# Altium footprint library avr_da.PcbLib: 21 footprints (part 1 of 2)
Each footprint in its own frame and in the unit in brackets; x right, y up, seen from the top. Pads: shape width x height; smd on the part's side, far side on the other; paste and mask are expansions set on the pad; w line width, h text height; cw(c..) or ccw(c..) is an arc to the next point about the centre after c.
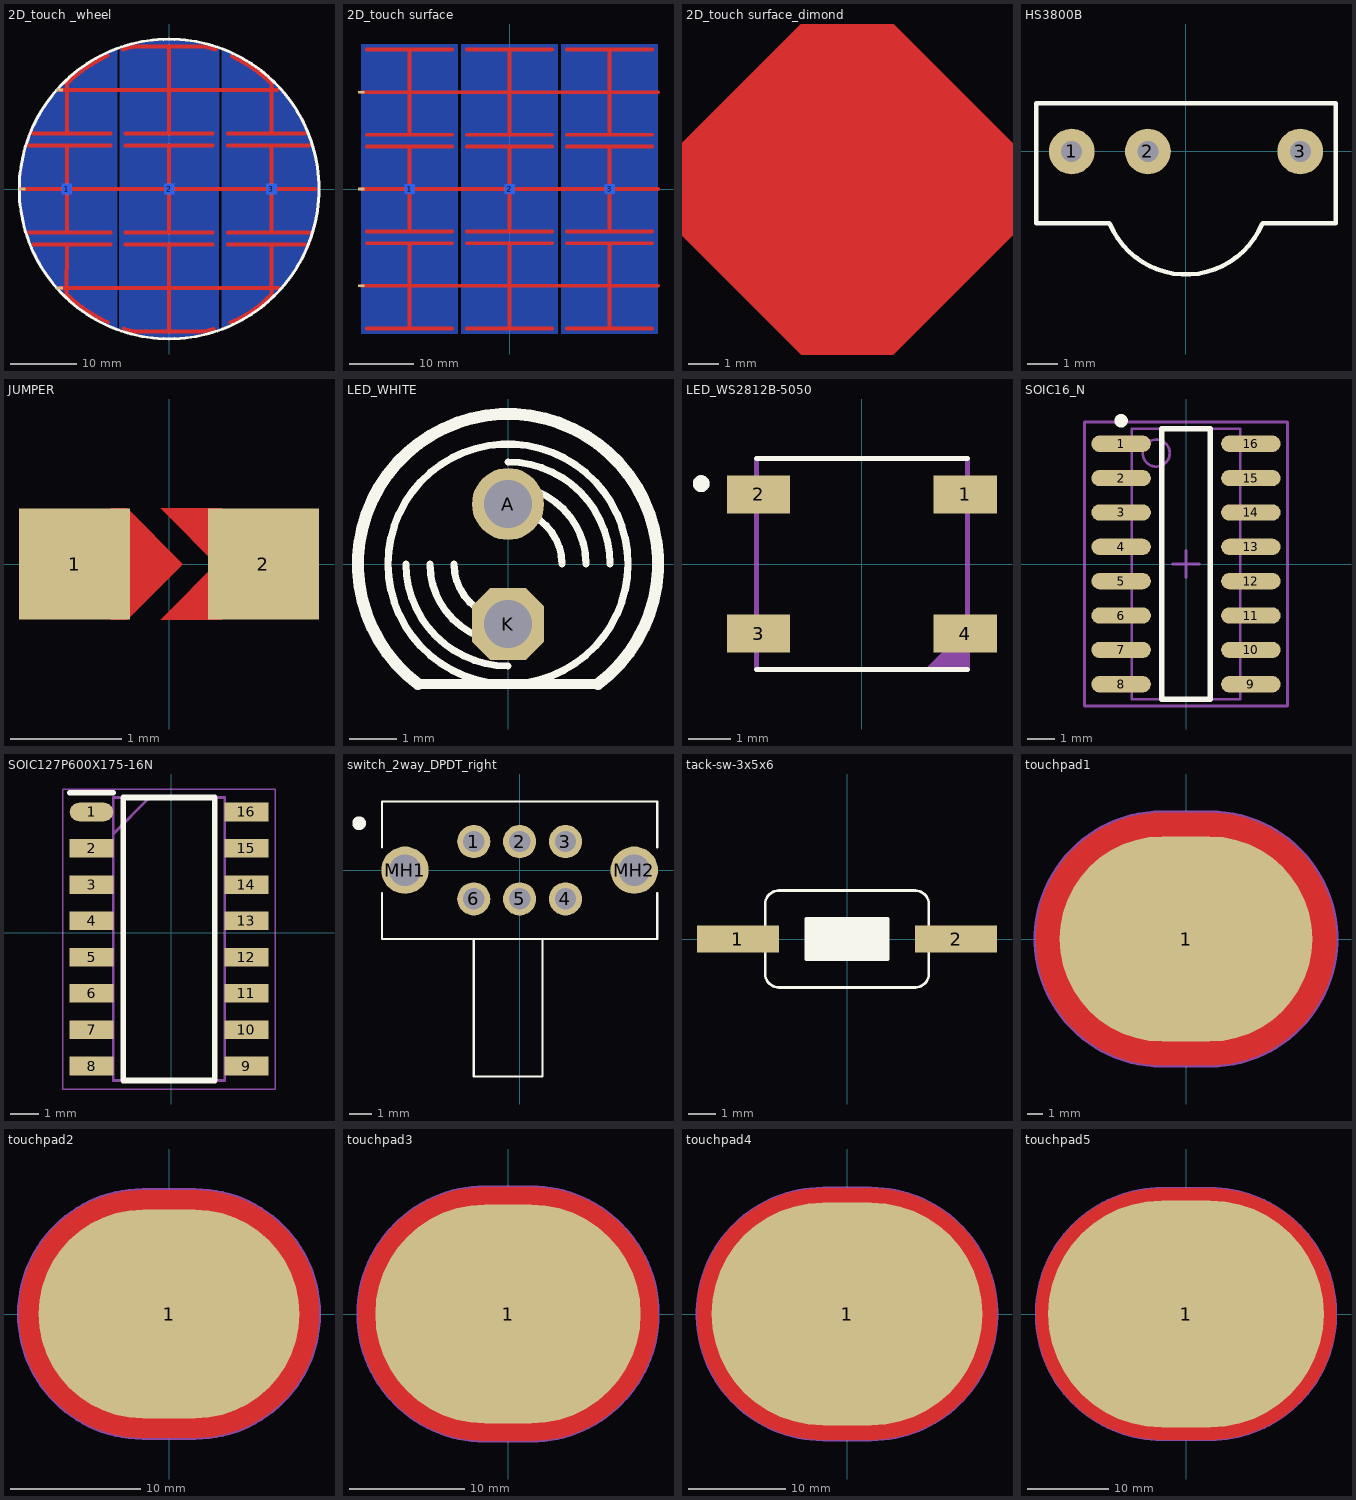
[diagram p0: the footprints below, top view; thin cyan lines are the x and y axes]

## 2D_touch _wheel [mm]
pads (6):
  rect 1.55x1.55 smd far side mask+0.102: 1(-15.5,0) 2(0,0) 3(15.5,0)
  rect 1x0.4 smd mask+0.102: 4(-16.575,15) 5(-22.25,0) 6(-16.55,-15)
Top Layer:
  lines w0.6: -22.25,0 22.1,0 ; -21.225,-6.6 -8.9,-6.6 ; -21.225,6.6 -8.9,6.6 ; -20.625,8.4 -8.9,8.4 ; -20.575,-8.4 -8.9,-8.4 ; -16.575,15 16.375,15 ; -16.55,-15 16.575,-15 ; -15.531,15.932 cw(c0,0) -9.318,20.205 ; -15.5,-8.4 -15.53,-15.934 ccw(c0,0) -9.302,-20.212 ; -15.5,-6.6 -15.5,6.6 ; -15.5,8.4 -15.5,15.9 ; -7.006,21.118 cw(c0,0) -5.561,21.544 ; -6.879,-21.16 ccw(c0,0) -5.16,-21.643 ; -6.6,-8.4 6.6,-8.4 ; -6.6,-6.6 6.6,-6.6 ; -6.6,6.6 6.6,6.6 ; -6.6,8.4 6.6,8.4 ; -5.561,21.6 5.225,21.6 ; -5.15,-21.6 5.15,-21.6 ; 0,-21.6 0,-8.4 ; 0,-6.6 0,6.6 ; 0,8.4 0,21.6 ; 5.156,-21.626 ccw(c-0.075,0) 6.711,-21.19 ; 5.259,21.619 cw(c0,0) 6.988,21.124 ; 8.9,-8.4 20.525,-8.4 ; 8.9,-6.6 21.175,-6.6 ; 8.9,6.6 21.225,6.6 ; 8.9,8.4 20.55,8.4 ; 9.27,-20.228 ccw(c2.92,-4.444) 14.651,-16.767 15.5,-15.957 15.5,-8.4 ; 9.496,20.122 cw(c0,0) 15.476,15.987 ; 15.5,-6.6 15.5,6.6 ; 15.5,8.4 15.5,15.975
Bottom Layer:
  region: -7.9,-21.15 -7.85,21.025 -7.85,21.175 -8.49,20.934 -9.741,20.377 -10.955,19.744 -12.129,19.039 -13.258,18.265 -14.338,17.424 -15.365,16.518 -16.336,15.553 -17.247,14.53 -18.093,13.454 -18.874,12.329 -19.585,11.159 -20.223,9.948 -20.788,8.701 -21.276,7.422 -21.685,6.115 -22.015,4.786 -22.264,3.44 -22.431,2.081 -22.515,0.715 -22.517,-0.655 -22.436,-2.021 -22.272,-3.381 -22.026,-4.728 -21.7,-6.057 -21.293,-7.365 -20.808,-8.645 -20.247,-9.894 -19.611,-11.106 -18.903,-12.278 -18.126,-13.405 -17.281,-14.483 -16.373,-15.508 -15.405,-16.476 -14.38,-17.383 -13.302,-18.227 -12.174,-19.004 -11.002,-19.712 -9.789,-20.347 -8.54,-20.908
  region: -7.55,-21.195 -6.948,-21.41 -5.72,-21.77 -4.474,-22.06 -3.213,-22.279 -1.942,-22.425 -0.665,-22.499 0.614,-22.501 1.892,-22.429 3.163,-22.286 4.424,-22.07 5.671,-21.783 6.9,-21.426 7.503,-21.212 7.5,-21.205 7.55,21.195 6.948,21.41 5.72,21.77 4.474,22.06 3.213,22.279 1.942,22.425 0.665,22.499 -0.614,22.501 -1.892,22.429 -3.163,22.286 -4.424,22.07 -5.671,21.783 -6.9,21.426 -7.503,21.212 -7.5,21.2
  region: 7.95,-21.05 8,21.025 8.002,21.029 8.708,20.76 10.081,20.129 11.409,19.408 12.685,18.599 13.904,17.706 15.06,16.733 16.149,15.685 17.165,14.567 18.103,13.382 18.96,12.138 19.732,10.838 20.415,9.49 21.005,8.099 21.501,6.672 21.9,5.214 22.201,3.734 22.401,2.236 22.501,0.728 22.499,-0.783 22.396,-2.291 22.192,-3.788 21.888,-5.268 21.485,-6.725 20.985,-8.151 20.391,-9.54 19.705,-10.887 18.931,-12.184 18.071,-13.427 17.129,-14.609 16.111,-15.725 15.019,-16.77 13.86,-17.74 12.639,-18.63 11.361,-19.436 10.031,-20.154 8.657,-20.782 7.95,-21.049
Top Overlay:
  circle w0.45: c0,0 r22.7

## 2D_touch surface [mm]
pads (6):
  rect 1.55x1.55 smd far side mask+0.102: 1(-15.5,0) 2(0,0) 3(15.5,0)
  rect 1x0.4 smd mask+0.102: 4(-23,15) 5(-23,0) 6(-23,-15)
Top Layer:
  lines w0.6: -23,-15 23,-15 ; -23,0 23,0 ; -23,15 23,15 ; -22.1,-21.6 -8.9,-21.6 ; -22.1,-8.4 -8.9,-8.4 ; -22.1,-6.6 -8.9,-6.6 ; -22.1,6.6 -8.9,6.6 ; -22.1,8.4 -8.9,8.4 ; -22.1,21.6 -8.9,21.6 ; -15.5,-21.6 -15.5,-8.4 ; -15.5,-6.6 -15.5,6.6 ; -15.5,8.4 -15.5,21.6 ; -6.6,-21.6 6.6,-21.6 ; -6.6,-8.4 6.6,-8.4 ; -6.6,-6.6 6.6,-6.6 ; -6.6,6.6 6.6,6.6 ; -6.6,8.4 6.6,8.4 ; -6.6,21.6 6.6,21.6 ; 0,-21.6 0,-8.4 ; 0,-6.6 0,6.6 ; 0,8.4 0,21.6 ; 8.9,-21.6 22.1,-21.6 ; 8.9,-8.4 22.1,-8.4 ; 8.9,-6.6 22.1,-6.6 ; 8.9,6.6 22.1,6.6 ; 8.9,8.4 22.1,8.4 ; 8.9,21.6 22.1,21.6 ; 15.5,-21.6 15.5,-8.4 ; 15.5,-6.6 15.5,6.6 ; 15.5,8.4 15.5,21.6
Bottom Layer:
  rectangle: 8,-22.5 23,22.5
  rectangle: -7.5,-22.5 7.5,22.5
  rectangle: -23,-22.5 -8,22.5

## 2D_touch surface_dimond [mm]
Top Layer:
  region: 0,-7.071 7.071,0 0,7.071 -7.071,0

## HS3800B [mil]
pads (3):
  round 60 hole 27.56: 1(-150,0) 2(-50,0) 3(150,0)
Top Overlay:
  lines w5.91: -100.63,-94.49 -196.85,-94.49 -196.85,62.99 196.85,62.99 196.85,-94.49 100.63,-94.49 ; -99.66,-95.45 ccw(c0,-53.15) 99.66,-95.45

## JUMPER [mm]
pads (2):
  rect 1x1 smd mask+0.05: 1(-0.85,0) 2(0.85,0)
Top Layer:
  region: -0.375,0.5 0.125,0 -0.375,-0.5 -0.525,-0.5 -0.525,0.5
  region: 0.475,0.05 0.475,-0.5 -0.075,-0.5
  region: 0.475,0.5 -0.075,0.5 0.475,-0.05

## LED_WHITE [mil]
pads (2):
  round 60 hole 40: A(0,50)
  oct 60x60 hole 40: K(0,-50)
Top Overlay:
  circle w6: c0,0 r100
  lines w6: -85,0 ccw(c0,0) 0,-85 ; -65,0 ccw(c0,0) 0,-65 ; -45,0 ccw(c0,0) 0,-45 ; 0,45 cw(c0,0) 45,0 ; 0,65 cw(c0,0) 65,0 ; 0,85 cw(c0,0) 85,0
  lines w8: -75,-100 75,-100
  lines w10: -75,-100 cw(c0,0) 75,-100
3D body "LED D5 - White-Clear_cutted.x_t": height 338.58, standoff -200.79, extent -116.14,-98.42 116.14,116.14

## LED_WS2812B-5050 [mm]
pads (4):
  rect 1.5x0.9 smd: 1(2.45,1.65) 2(-2.45,1.65) 3(-2.45,-1.65) 4(2.45,-1.65)
Top Overlay:
  circle w0.2: c-3.81,1.905 r0.1
  lines w0.127: -2.5,-2.5 2.5,-2.5 ; -2.5,2.5 2.5,2.5
Mechanical 13:
  circle w0.2: c-3.81,1.905 r0.1
  region: 2.5,-2.5 1.5,-2.5 2.5,-1.5
  lines w0.127: -2.5,-2.5 -2.5,2.5 2.5,2.5 2.5,-2.5 -2.5,-2.5
3D body "WS2812_RGB_LED_updated.stp": height 1.68, standoff -0.02, extent -2.675,-2.475 2.675,2.475

## SOIC16_N [mm] "SOIC, 16-Leads, Body 9.9x3.9mm, Pitch 1.27mm, IPC Medium Density"
height 1.91
pads (16):
  oval 2.2x0.6 smd: 1(-2.4,4.445) 2(-2.4,3.175) 3(-2.4,1.905) 4(-2.4,0.635) 5(-2.4,-0.635) 6(-2.4,-1.905) 7(-2.4,-3.175) 8(-2.4,-4.445) 9(2.4,-4.445) 10(2.4,-3.175) 11(2.4,-1.905) 12(2.4,-0.635) 13(2.4,0.635) 14(2.4,1.905) 15(2.4,3.175) 16(2.4,4.445)
Top Overlay:
  circle w0.25: c-2.4,5.295 r0.125
  lines w0.2: -0.9,-5 -0.9,5 0.9,5 0.9,-5 -0.9,-5
Mechanical 13:
  circle w0.1: c-1.1,4.1 r0.5
  lines w0.1: -2,-5 -2,5 2,5 2,-5 -2,-5
Mechanical 15:
  lines w0.1: -0.5,0 0.5,0 ; 0,-0.5 0,0.5 ; -3.75,-5.25 -3.75,5.25 3.75,5.25 3.75,-5.25 -3.75,-5.25
3D body: height 1.91, standoff 0, extent -2,-5 2,5

## SOIC127P600X175-16N [mm]
pads (16):
  oval 1.525x0.65 smd: 1(-2.787,4.22)
  rect 1.525x0.65 smd: 2(-2.787,2.95) 3(-2.787,1.68) 4(-2.787,0.41) 5(-2.787,-0.86) 6(-2.787,-2.13) 7(-2.787,-3.4) 8(-2.787,-4.67) 9(2.637,-4.67) 10(2.637,-3.4) 11(2.637,-2.13) 12(2.637,-0.86) 13(2.637,0.41) 14(2.637,1.68) 15(2.637,2.95) 16(2.637,4.22)
Top Overlay:
  lines w0.2: -3.55,4.895 -2.025,4.895 ; -1.675,-5.175 1.525,-5.175 1.525,4.725 -1.675,4.725 -1.675,-5.175
Mechanical 13:
  lines w0.1: -2.025,3.455 -0.755,4.725 ; -2.025,-5.175 1.875,-5.175 1.875,4.725 -2.025,4.725 -2.025,-5.175
Mechanical 15:
  lines w0.05: -3.8,-5.475 3.65,-5.475 3.65,5.025 -3.8,5.025 -3.8,-5.475
3D body "MAX3232ECD.stp": height 1.75, standoff 0, extent -3.088,-5.165 2.938,4.735

## switch_2way_DPDT_right [mm]
pads (8):
  round 1.447 hole 0.93: 1(-2,1.25) 2(0,1.25) 3(2,1.25) 4(2,-1.25) 5(0,-1.25) 6(-2,-1.25)
  round 2.07 hole 1.38: MH1(-5,0) MH2(5,0)
Top Overlay:
  lines w0.1: -6,-1 -6,-3 6,-3 6,-1 ; -6,1 -6,3 6,3 6,1 ; -2,-3 -2,-9 1,-9 1,-3
  lines w0.5: -7,2 cw(c-7,2.05) -7,2.1 cw(c-7,2.05) -7,2
3D body "step_temp.STEP": height 5.07, standoff -2.93, extent -5.093,-9.048 5.207,2.952

## tack-sw-3x5x6 [mm]
pads (2):
  rect 3x1 smd mask+0.05: 1(-4,0) 2(4,0)
Top Overlay:
  rectangle: -1.5,-0.75 1.5,0.75
  lines w0.1: -3,-1.275 ccw(c-2.5,-1.275) -2.5,-1.775 2.5,-1.775 ccw(c2.5,-1.275) 3,-1.275 3,1.275 ccw(c2.5,1.275) 2.5,1.775 -2.5,1.775 ccw(c-2.5,1.275) -3,1.275 -3,-1.275 ; -1.5,-0.75 1.5,-0.75 1.5,0.75 -1.5,0.75 -1.5,-0.75
3D body "RS-032G05A3-SM RT--3DModel-STEP-56544.STEP": height 4.3, standoff 0, extent -4,-1.75 4,1.75

## touchpad1 [mm]
pads (1):
  oval 16x13 smd mask+0.102: 1(0,0)
Top Layer:
  pour cut-out: -1.5,-8 -1.949,-8 -2.842,-7.899 -3.718,-7.699 -4.566,-7.403 -5.376,-7.013 -6.137,-6.535 -6.839,-5.975 -7.475,-5.339 -8.035,-4.637 -8.513,-3.876 -8.903,-3.066 -9.199,-2.218 -9.399,-1.342 -9.5,-0.449 -9.5,0.449 -9.399,1.342 -9.199,2.218 -8.903,3.066 -8.513,3.876 -8.035,4.637 -7.475,5.339 -6.839,5.975 -6.137,6.535 -5.376,7.013 -4.566,7.403 -3.718,7.699 -2.842,7.899 -1.949,8 -1.5,8 1.5,8 1.949,8 2.842,7.899 3.718,7.699 4.566,7.403 5.376,7.013 6.137,6.535 6.839,5.975 7.475,5.339 8.035,4.637 8.513,3.876 8.903,3.066 9.199,2.218 9.399,1.342 9.5,0.449 9.5,-0.449 9.399,-1.342 9.199,-2.218 8.903,-3.066 8.513,-3.876 8.035,-4.637 7.475,-5.339 6.839,-5.975 6.137,-6.535 5.376,-7.013 4.566,-7.403 3.718,-7.699 2.842,-7.899 1.949,-8 1.5,-8
Bottom Layer:
  pour cut-out: -1.5,-8 -1.949,-8 -2.842,-7.899 -3.718,-7.699 -4.566,-7.403 -5.376,-7.013 -6.137,-6.535 -6.839,-5.975 -7.475,-5.339 -8.035,-4.637 -8.513,-3.876 -8.903,-3.066 -9.199,-2.218 -9.399,-1.342 -9.5,-0.449 -9.5,0.449 -9.399,1.342 -9.199,2.218 -8.903,3.066 -8.513,3.876 -8.035,4.637 -7.475,5.339 -6.839,5.975 -6.137,6.535 -5.376,7.013 -4.566,7.403 -3.718,7.699 -2.842,7.899 -1.949,8 -1.5,8 1.5,8 1.949,8 2.842,7.899 3.718,7.699 4.566,7.403 5.376,7.013 6.137,6.535 6.839,5.975 7.475,5.339 8.035,4.637 8.513,3.876 8.903,3.066 9.199,2.218 9.399,1.342 9.5,0.449 9.5,-0.449 9.399,-1.342 9.199,-2.218 8.903,-3.066 8.513,-3.876 8.035,-4.637 7.475,-5.339 6.839,-5.975 6.137,-6.535 5.376,-7.013 4.566,-7.403 3.718,-7.699 2.842,-7.899 1.949,-8 1.5,-8
Top Overlay:
  text "13x16" at -3.05,-0.725 h3
Top Courtyard:
  lines w0.3: -1.5,-8 cw(c-1.5,0) -1.5,8 1.5,8 cw(c1.5,0) 1.5,-8 -1.5,-8

## touchpad2 [mm]
pads (1):
  oval 20x16 smd mask+0.102: 1(0,0)
Top Layer:
  pour cut-out: -2,-9.5 -2.467,-9.5 -3.396,-9.409 -4.311,-9.226 -5.204,-8.955 -6.067,-8.598 -6.89,-8.158 -7.666,-7.64 -8.388,-7.048 -9.048,-6.388 -9.64,-5.666 -10.158,-4.89 -10.598,-4.067 -10.955,-3.204 -11.226,-2.311 -11.409,-1.396 -11.5,-0.467 -11.5,0.467 -11.409,1.396 -11.226,2.311 -10.955,3.204 -10.598,4.067 -10.158,4.89 -9.64,5.666 -9.048,6.388 -8.388,7.048 -7.666,7.64 -6.89,8.158 -6.067,8.598 -5.204,8.955 -4.311,9.226 -3.396,9.409 -2.467,9.5 -2,9.5 2,9.5 2.467,9.5 3.396,9.409 4.311,9.226 5.204,8.955 6.067,8.598 6.89,8.158 7.666,7.64 8.388,7.048 9.048,6.388 9.64,5.666 10.158,4.89 10.598,4.067 10.955,3.204 11.226,2.311 11.409,1.396 11.5,0.467 11.5,-0.467 11.409,-1.396 11.226,-2.311 10.955,-3.204 10.598,-4.067 10.158,-4.89 9.64,-5.666 9.048,-6.388 8.388,-7.048 7.666,-7.64 6.89,-8.158 6.067,-8.598 5.204,-8.955 4.311,-9.226 3.396,-9.409 2.467,-9.5 2,-9.5
Bottom Layer:
  pour cut-out: -2,-9.5 -2.467,-9.5 -3.396,-9.409 -4.311,-9.226 -5.204,-8.955 -6.067,-8.598 -6.89,-8.158 -7.666,-7.64 -8.388,-7.048 -9.048,-6.388 -9.64,-5.666 -10.158,-4.89 -10.598,-4.067 -10.955,-3.204 -11.226,-2.311 -11.409,-1.396 -11.5,-0.467 -11.5,0.467 -11.409,1.396 -11.226,2.311 -10.955,3.204 -10.598,4.067 -10.158,4.89 -9.64,5.666 -9.048,6.388 -8.388,7.048 -7.666,7.64 -6.89,8.158 -6.067,8.598 -5.204,8.955 -4.311,9.226 -3.396,9.409 -2.467,9.5 -2,9.5 2,9.5 2.467,9.5 3.396,9.409 4.311,9.226 5.204,8.955 6.067,8.598 6.89,8.158 7.666,7.64 8.388,7.048 9.048,6.388 9.64,5.666 10.158,4.89 10.598,4.067 10.955,3.204 11.226,2.311 11.409,1.396 11.5,0.467 11.5,-0.467 11.409,-1.396 11.226,-2.311 10.955,-3.204 10.598,-4.067 10.158,-4.89 9.64,-5.666 9.048,-6.388 8.388,-7.048 7.666,-7.64 6.89,-8.158 6.067,-8.598 5.204,-8.955 4.311,-9.226 3.396,-9.409 2.467,-9.5 2,-9.5
Top Overlay:
  text "16x20" at -3.05,-0.725 h3
Top Courtyard:
  lines w0.3: -2,-9.5 cw(c-2,0) -2,9.5 2,9.5 cw(c2,0) 2,-9.5 -2,-9.5

## touchpad3 [mm]
pads (1):
  oval 23x19 smd mask+0.102: 1(0,0)
Top Layer:
  pour cut-out: -2,-11 -2.48,-11 -3.437,-10.916 -4.383,-10.749 -5.311,-10.501 -6.214,-10.172 -7.084,-9.766 -7.916,-9.286 -8.703,-8.735 -9.439,-8.118 -10.118,-7.439 -10.735,-6.703 -11.286,-5.916 -11.766,-5.084 -12.172,-4.214 -12.501,-3.311 -12.749,-2.383 -12.916,-1.437 -13,-0.48 -13,0.48 -12.916,1.437 -12.749,2.383 -12.501,3.311 -12.172,4.214 -11.766,5.084 -11.286,5.916 -10.735,6.703 -10.118,7.439 -9.439,8.118 -8.703,8.735 -7.916,9.286 -7.084,9.766 -6.214,10.172 -5.311,10.501 -4.383,10.749 -3.437,10.916 -2.48,11 -2,11 2,11 2.48,11 3.437,10.916 4.383,10.749 5.311,10.501 6.214,10.172 7.084,9.766 7.916,9.286 8.703,8.735 9.439,8.118 10.118,7.439 10.735,6.703 11.286,5.916 11.766,5.084 12.172,4.214 12.501,3.311 12.749,2.383 12.916,1.437 13,0.48 13,-0.48 12.916,-1.437 12.749,-2.383 12.501,-3.311 12.172,-4.214 11.766,-5.084 11.286,-5.916 10.735,-6.703 10.118,-7.439 9.439,-8.118 8.703,-8.735 7.916,-9.286 7.084,-9.766 6.214,-10.172 5.311,-10.501 4.383,-10.749 3.437,-10.916 2.48,-11 2,-11
Bottom Layer:
  pour cut-out: -2,-11 -2.48,-11 -3.437,-10.916 -4.383,-10.749 -5.311,-10.501 -6.214,-10.172 -7.084,-9.766 -7.916,-9.286 -8.703,-8.735 -9.439,-8.118 -10.118,-7.439 -10.735,-6.703 -11.286,-5.916 -11.766,-5.084 -12.172,-4.214 -12.501,-3.311 -12.749,-2.383 -12.916,-1.437 -13,-0.48 -13,0.48 -12.916,1.437 -12.749,2.383 -12.501,3.311 -12.172,4.214 -11.766,5.084 -11.286,5.916 -10.735,6.703 -10.118,7.439 -9.439,8.118 -8.703,8.735 -7.916,9.286 -7.084,9.766 -6.214,10.172 -5.311,10.501 -4.383,10.749 -3.437,10.916 -2.48,11 -2,11 2,11 2.48,11 3.437,10.916 4.383,10.749 5.311,10.501 6.214,10.172 7.084,9.766 7.916,9.286 8.703,8.735 9.439,8.118 10.118,7.439 10.735,6.703 11.286,5.916 11.766,5.084 12.172,4.214 12.501,3.311 12.749,2.383 12.916,1.437 13,0.48 13,-0.48 12.916,-1.437 12.749,-2.383 12.501,-3.311 12.172,-4.214 11.766,-5.084 11.286,-5.916 10.735,-6.703 10.118,-7.439 9.439,-8.118 8.703,-8.735 7.916,-9.286 7.084,-9.766 6.214,-10.172 5.311,-10.501 4.383,-10.749 3.437,-10.916 2.48,-11 2,-11
Top Overlay:
  text "19x23" at -3.025,-0.625 h3
Top Courtyard:
  lines w0.3: -2,-11 cw(c-2,0) -2,11 2,11 cw(c2,0) 2,-11 -2,-11

## touchpad4 [mm]
pads (1):
  oval 28x23 smd mask+0.102: 1(0,0)
Top Layer:
  pour cut-out: -2.5,-13 -3.068,-13 -4.198,-12.901 -5.316,-12.704 -6.413,-12.41 -7.48,-12.022 -8.508,-11.542 -9.492,-10.975 -10.421,-10.323 -11.291,-9.594 -12.094,-8.791 -12.823,-7.921 -13.475,-6.992 -14.042,-6.008 -14.522,-4.98 -14.91,-3.913 -15.204,-2.816 -15.401,-1.698 -15.5,-0.568 -15.5,0.568 -15.401,1.698 -15.204,2.816 -14.91,3.913 -14.522,4.98 -14.042,6.008 -13.475,6.992 -12.823,7.921 -12.094,8.791 -11.291,9.594 -10.421,10.323 -9.492,10.975 -8.508,11.542 -7.48,12.022 -6.413,12.41 -5.316,12.704 -4.198,12.901 -3.068,13 -2.5,13 2.5,13 3.068,13 4.198,12.901 5.316,12.704 6.413,12.41 7.48,12.022 8.508,11.542 9.492,10.975 10.421,10.323 11.291,9.594 12.094,8.791 12.823,7.921 13.475,6.992 14.042,6.008 14.522,4.98 14.91,3.913 15.204,2.816 15.401,1.698 15.5,0.568 15.5,-0.568 15.401,-1.698 15.204,-2.816 14.91,-3.913 14.522,-4.98 14.042,-6.008 13.475,-6.992 12.823,-7.921 12.094,-8.791 11.291,-9.594 10.421,-10.323 9.492,-10.975 8.508,-11.542 7.48,-12.022 6.413,-12.41 5.316,-12.704 4.198,-12.901 3.068,-13 2.5,-13
Bottom Layer:
  pour cut-out: -2.5,-13 -3.068,-13 -4.198,-12.901 -5.316,-12.704 -6.413,-12.41 -7.48,-12.022 -8.508,-11.542 -9.492,-10.975 -10.421,-10.323 -11.291,-9.594 -12.094,-8.791 -12.823,-7.921 -13.475,-6.992 -14.042,-6.008 -14.522,-4.98 -14.91,-3.913 -15.204,-2.816 -15.401,-1.698 -15.5,-0.568 -15.5,0.568 -15.401,1.698 -15.204,2.816 -14.91,3.913 -14.522,4.98 -14.042,6.008 -13.475,6.992 -12.823,7.921 -12.094,8.791 -11.291,9.594 -10.421,10.323 -9.492,10.975 -8.508,11.542 -7.48,12.022 -6.413,12.41 -5.316,12.704 -4.198,12.901 -3.068,13 -2.5,13 2.5,13 3.068,13 4.198,12.901 5.316,12.704 6.413,12.41 7.48,12.022 8.508,11.542 9.492,10.975 10.421,10.323 11.291,9.594 12.094,8.791 12.823,7.921 13.475,6.992 14.042,6.008 14.522,4.98 14.91,3.913 15.204,2.816 15.401,1.698 15.5,0.568 15.5,-0.568 15.401,-1.698 15.204,-2.816 14.91,-3.913 14.522,-4.98 14.042,-6.008 13.475,-6.992 12.823,-7.921 12.094,-8.791 11.291,-9.594 10.421,-10.323 9.492,-10.975 8.508,-11.542 7.48,-12.022 6.413,-12.41 5.316,-12.704 4.198,-12.901 3.068,-13 2.5,-13
Top Overlay:
  text "23x28" at -3.25,-0.675 h3
Top Courtyard:
  lines w0.3: -2.5,-13 cw(c-2.5,0) -2.5,13 2.5,13 cw(c2.5,0) 2.5,-13 -2.5,-13

## touchpad5 [mm]
pads (1):
  oval 34x28 smd mask+0.102: 1(0,0)
Top Layer:
  pour cut-out: -3,-15.5 3,-15.5 3.609,-15.5 4.823,-15.404 6.026,-15.214 7.211,-14.93 8.369,-14.553 9.494,-14.087 10.579,-13.534 11.618,-12.898 12.603,-12.182 13.53,-11.391 14.391,-10.53 15.182,-9.603 15.898,-8.618 16.534,-7.579 17.087,-6.494 17.553,-5.369 17.93,-4.211 18.214,-3.026 18.404,-1.823 18.5,-0.609 18.5,0.609 18.404,1.823 18.214,3.026 17.93,4.211 17.553,5.369 17.087,6.494 16.534,7.579 15.898,8.618 15.182,9.603 14.391,10.53 13.53,11.391 12.603,12.182 11.618,12.898 10.579,13.534 9.494,14.087 8.369,14.553 7.211,14.93 6.026,15.214 4.823,15.404 3.609,15.5 3,15.5 -3,15.5 -3.609,15.5 -4.823,15.404 -6.026,15.214 -7.211,14.93 -8.369,14.553 -9.494,14.087 -10.579,13.534 -11.618,12.898 -12.603,12.182 -13.53,11.391 -14.391,10.53 -15.182,9.603 -15.898,8.618 -16.534,7.579 -17.087,6.494 -17.553,5.369 -17.93,4.211 -18.214,3.026 -18.404,1.823 -18.5,0.609 -18.5,-0.609 -18.404,-1.823 -18.214,-3.026 -17.93,-4.211 -17.553,-5.369 -17.087,-6.494 -16.534,-7.579 -15.898,-8.618 -15.182,-9.603 -14.391,-10.53 -13.53,-11.391 -12.603,-12.182 -11.618,-12.898 -10.579,-13.534 -9.494,-14.087 -8.369,-14.553 -7.211,-14.93 -6.026,-15.214 -4.823,-15.404 -3.609,-15.5
Bottom Layer:
  pour cut-out: -3,-15.5 3,-15.5 3.609,-15.5 4.823,-15.404 6.026,-15.214 7.211,-14.93 8.369,-14.553 9.494,-14.087 10.579,-13.534 11.618,-12.898 12.603,-12.182 13.53,-11.391 14.391,-10.53 15.182,-9.603 15.898,-8.618 16.534,-7.579 17.087,-6.494 17.553,-5.369 17.93,-4.211 18.214,-3.026 18.404,-1.823 18.5,-0.609 18.5,0.609 18.404,1.823 18.214,3.026 17.93,4.211 17.553,5.369 17.087,6.494 16.534,7.579 15.898,8.618 15.182,9.603 14.391,10.53 13.53,11.391 12.603,12.182 11.618,12.898 10.579,13.534 9.494,14.087 8.369,14.553 7.211,14.93 6.026,15.214 4.823,15.404 3.609,15.5 3,15.5 -3,15.5 -3.609,15.5 -4.823,15.404 -6.026,15.214 -7.211,14.93 -8.369,14.553 -9.494,14.087 -10.579,13.534 -11.618,12.898 -12.603,12.182 -13.53,11.391 -14.391,10.53 -15.182,9.603 -15.898,8.618 -16.534,7.579 -17.087,6.494 -17.553,5.369 -17.93,4.211 -18.214,3.026 -18.404,1.823 -18.5,0.609 -18.5,-0.609 -18.404,-1.823 -18.214,-3.026 -17.93,-4.211 -17.553,-5.369 -17.087,-6.494 -16.534,-7.579 -15.898,-8.618 -15.182,-9.603 -14.391,-10.53 -13.53,-11.391 -12.603,-12.182 -11.618,-12.898 -10.579,-13.534 -9.494,-14.087 -8.369,-14.553 -7.211,-14.93 -6.026,-15.214 -4.823,-15.404 -3.609,-15.5
Top Overlay:
  text "28x34" at -3.25,-0.675 h3
Top Courtyard:
  lines w0.3: -3,-15.5 cw(c-3,0) -3,15.5 3,15.5 cw(c3,0) 3,-15.5 -3,-15.5